# Altium footprint library silicon-labs-packages.PcbLib: 2 footprints
Each footprint in its own frame and in the unit in brackets; x right, y up, seen from the top. Pads: shape width x height; smd on the part's side, far side on the other; paste and mask are expansions set on the pad; w line width, h text height; cw(c..) or ccw(c..) is an arc to the next point about the centre after c.
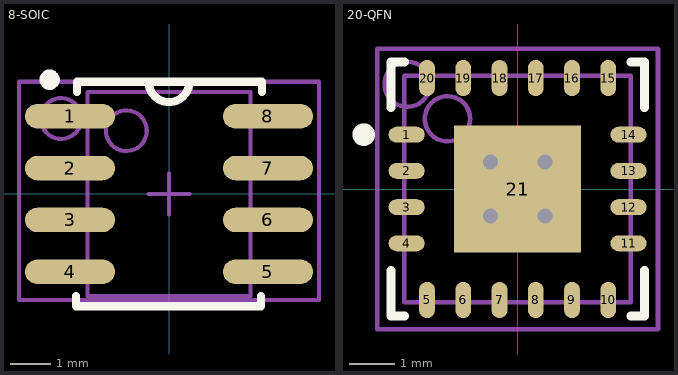
[diagram p0: the footprints below, top view; thin cyan lines are the x and y axes]

## 8-SOIC [mm] "Plastic Small Outline 8"
height 1.7
pads (8):
  oval 2.2x0.6 smd: 1(-2.425,1.905) 2(-2.425,0.635) 3(-2.425,-0.635) 4(-2.425,-1.905) 5(2.425,-1.905) 6(2.425,-0.635) 7(2.425,0.635) 8(2.425,1.905)
Top Overlay:
  circle w0.25: c-2.925,2.8 r0.125
  lines w0.2: -2.275,-2.5 -2.275,-2.75 2.25,-2.75 2.25,-2.5 ; -2.25,2.5 -2.25,2.75 2.275,2.75 2.275,2.5 ; -0.5,2.75 ccw(c0,2.75) 0.5,2.75
Mechanical 13:
  circle w0.1: c-1.045,1.55 r0.5
  lines w0.1: -0.5,0 0.5,0 ; 0,-0.5 0,0.5 ; -2,-2.5 -2,2.5 2,2.5 2,-2.5 -2,-2.5
Mechanical 15:
  circle w0.1: c-2.645,1.85 r0.5
  lines w0.1: -3.675,-2.6 -3.675,2.75 3.675,2.75 3.675,-2.6 -3.675,-2.6
  text ".Designator" at -0.1,2.375 h0.5
3D body: height 1.75, standoff 0, extent -2.9,-2.4 2.9,2.4

## 20-QFN [mm] "QFN, 20-Leads, Body 5.0x5.0mm (max), Pitch 0.80mm, IPC Medium Density"
height 0.9
pads (21):
  oval 0.8x0.35 smd: 1(-2.45,1.2) 2(-2.45,0.4) 3(-2.45,-0.4) 4(-2.45,-1.2) 11(2.45,-1.2) 12(2.45,-0.4) 13(2.45,0.4) 14(2.45,1.2)
  oval 0.35x0.8 smd: 5(-2,-2.45) 6(-1.2,-2.45) 7(-0.4,-2.45) 8(0.4,-2.45) 9(1.2,-2.45) 10(2,-2.45) 15(2,2.45) 16(1.2,2.45) 17(0.4,2.45) 18(-0.4,2.45) 19(-1.2,2.45) 20(-2,2.45)
  rect 2.8x2.8 smd: 21(0,0)
via 0.6,-0.6 diameter 0.66 hole 0.33
via -0.6,-0.6 diameter 0.66 hole 0.33
via 0.6,0.6 diameter 0.66 hole 0.33
via -0.6,0.6 diameter 0.66 hole 0.33
Top Overlay:
  circle w0.25: c-3.4,1.2 r0.125
  lines w0.2: -2.8,-1.8 -2.8,-2.8 -2.5,-2.8 ; -2.8,1.8 -2.8,2.8 -2.5,2.8 ; 2.5,-2.8 2.8,-2.8 2.8,-1.8 ; 2.5,2.8 2.8,2.8 2.8,1.8
Mechanical 13:
  circle w0.1: c-1.55,1.55 r0.5
  lines w0.1: -0.5,0 0.5,0 ; 0,-0.5 0,0.5 ; -2.5,-2.5 2.5,-2.5 2.5,2.5 -2.5,2.5 -2.5,-2.5
Mechanical 15:
  circle w0.1: c-2.439,2.312 r0.5
  lines w0.1: -3.1,-3.1 3.1,-3.1 3.1,3.1 -3.1,3.1 -3.1,-3.1
  text ".Designator" at -1.7,-0.125 h0.5
3D body: height 0.9, standoff 0.05, extent -2.5,-2.5 2.5,2.5